# EAGLE library part 1725737 (library 1725737)
Fixed Terminal Blocks 10P 2.54mm 90DEG Source: Datasheet <https://www.phoenixcontact.com/online/portal/us/?uri=pxc-oc-itemdetail:pid=1725737&library=usen&pcck=P-11-01-05&tab=1&selectedCategory=ALL>
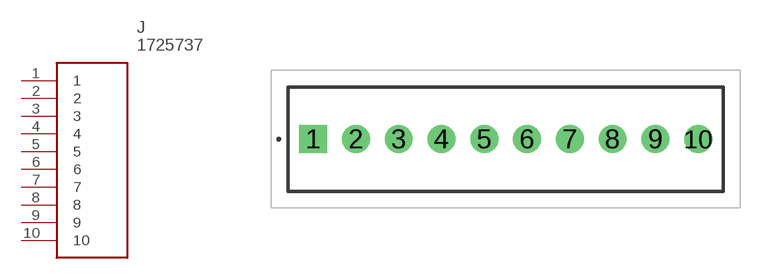
[diagram p0: symbol with the pads of 1725737; footprint 1725737]

Designator prefix J

## 1725737 (Description: Fixed Terminal Blocks 10P 2.54mm 90DEG; Height: 8.65mm; Manufacturer_Name: Phoenix Contact; Manufacturer_Part_Number: 1725737; Mouser_Part_Number: 651-1725737; Mouser_Price-Stock: https://www.mouser.co.uk/ProductDetail/Phoenix-Contact/1725737?qs=W3wJikR1%252BS4TtzjqDk79Bg%3D%3D)  [1725737]
1  1
2  2
3  3
4  4
5  5
6  6
7  7
8  8
9  9
10  10

## Footprint 1725737 (pad centres in mm)
1725737
drill 1.1 pad 1.65 square: 1 0,0
drill 1.1 pad 1.65: 2 2.54,0; 3 5.08,0; 4 7.62,0; 5 10.16,0; 6 12.7,0; 7 15.24,0; 8 17.78,0; 9 20.32,0; 10 22.86,0